# Altium footprint library SAMTEC_SSW-110-01-XXX-S.PcbLib: 1 footprints
Each footprint in its own frame and in the unit in brackets; x right, y up, seen from the top. Pads: shape width x height; smd on the part's side, far side on the other; paste and mask are expansions set on the pad; w line width, h text height; cw(c..) or ccw(c..) is an arc to the next point about the centre after c.
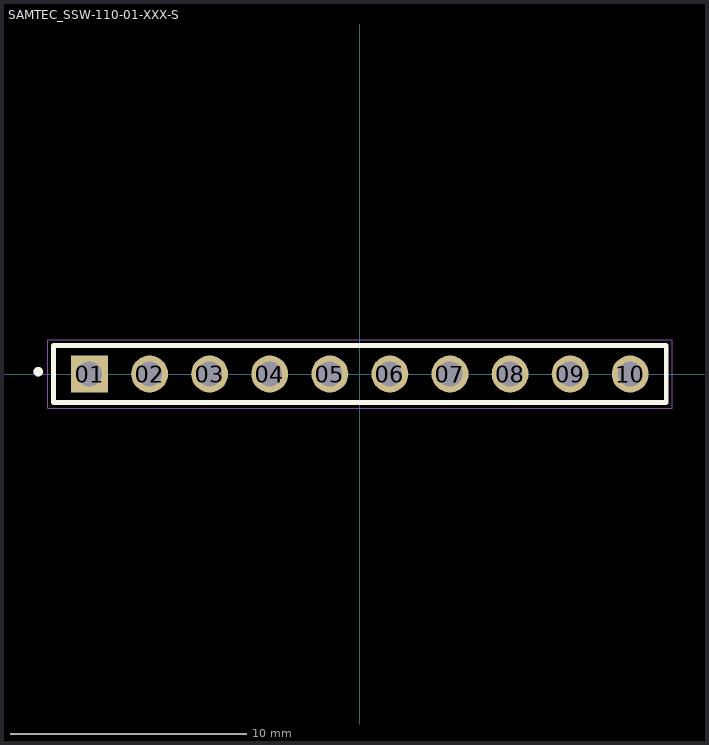
[diagram p0: the footprint, top view; thin cyan lines are the x and y axes]

## SAMTEC_SSW-110-01-XXX-S [mm]
height 8.51
pads (10):
  rect 1.56x1.56 / inner round 1.56 / far side rect 1.56x1.56 hole 1.04: 01(-11.43,0)
  round 1.56 hole 1.04: 02(-8.89,0) 03(-6.35,0) 04(-3.81,0) 05(-1.27,0) 06(1.27,0) 07(3.81,0) 08(6.35,0) 09(8.89,0) 10(11.43,0)
Top Overlay:
  circle w0.2: c-13.6,0.1 r0.1
  lines w0.2: -12.955,-1.205 -12.955,1.205 12.955,1.205 12.955,-1.205 -12.955,-1.205
Assembly Top:
  circle w0.2: c-13.6,0.1 r0.1
  lines w0.1: -12.955,-1.205 12.955,-1.205 12.955,1.205 -12.955,1.205 -12.955,-1.205
Courtyard Top:
  lines w0.05: -13.205,-1.455 13.205,-1.455 13.205,1.455 -13.205,1.455 -13.205,-1.455